# Altium footprint library PIPE_SMALL.PcbLib: 1 footprints
Each footprint in its own frame and in the unit in brackets; x right, y up, seen from the top. Pads: shape width x height; smd on the part's side, far side on the other; paste and mask are expansions set on the pad; w line width, h text height; cw(c..) or ccw(c..) is an arc to the next point about the centre after c.
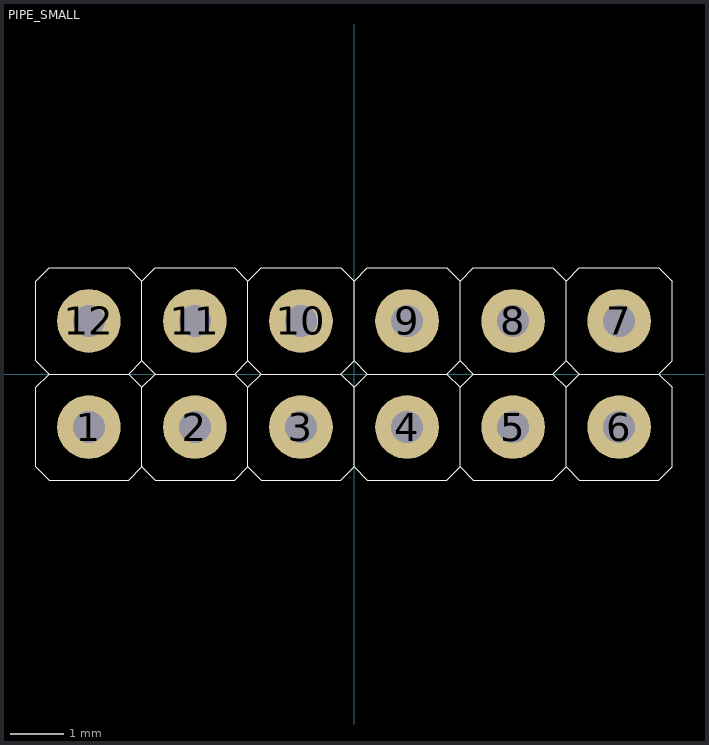
[diagram p0: the footprint, top view; thin cyan lines are the x and y axes]

## PIPE_SMALL [mm]
pads (12):
  round 1.2 hole 0.6: 1(-5,-1) 2(-3,-1) 3(-1,-1) 4(1,-1) 5(3,-1) 6(5,-1) 7(5,1) 8(3,1) 9(1,1) 10(-1,1) 11(-3,1) 12(-5,1)
Top Overlay:
  lines w0.01: -6,-0.25 -5.75,0 ; -6,-0.25 -6,-0.25 ; -6,-0.25 -6,-1.75 -5.75,-2 -4.25,-2 -4,-1.75 ; -6,1.75 -6,0.25 -5.75,0 ; -6,1.75 -6,1.75 ; -6,1.75 -5.75,2 -4.25,2 -4,1.75 ; -5.75,0 -4.25,0 ; -5.75,0 -4.25,0 ; -4.25,0 -4,0.25 ; -4.25,0 -4,-0.25 ; -4,-1.75 -4,-0.25 ; -4,-1.75 -3.75,-2 -2.25,-2 -2,-1.75 ; -4,-0.25 -3.75,0 ; -4,0.25 -3.75,0 ; -4,0.25 -4,1.75 ; -4,1.75 -3.75,2 -2.25,2 -2,1.75 ; -3.75,0 -2.25,0 ; -3.75,0 -2.25,0 ; -2.25,0 -2,0.25 ; -2.25,0 -2,-0.25 ; -2,-1.75 -2,-0.25 ; -2,-1.75 -2,-1.75 ; -2,-1.75 -1.75,-2 -0.25,-2 0,-1.75 ; -2,-0.25 -1.75,0 ; -2,0.25 -1.75,0 ; -2,0.25 -2,0.25 ; -2,0.25 -2,1.75 ; -2,1.75 -1.75,2 -0.25,2 0,1.75 ; -1.75,0 -0.25,0 ; -1.75,0 -0.25,0 ; -0.25,0 0,0.25 ; -0.25,0 0,-0.25 ; 0,-1.75 0,-0.25 ; 0,-1.75 0.25,-2 1.625,-2 1.75,-2 2,-1.75 ; 0,-0.25 0.25,0 ; 0,0.25 0.25,0 ; 0,0.25 0,1.75 ; 0,1.75 0.25,2 1.625,2 1.75,2 2,1.75 ; 0.25,0 1.625,0 ; 0.25,0 1.625,0 ; 1.625,0 1.75,0 ; 1.625,0 1.75,0 ; 1.75,0 2,0.25 ; 1.75,0 2,-0.25 ; 2,-1.75 2.25,-2 3.75,-2 4,-1.75 ; 2,-1.75 2,-1.725 2,-0.25 ; 2,-0.25 2.25,0 ; 2,0.25 2,0.275 2,1.75 ; 2,0.25 2.25,0 ; 2,1.75 2.25,2 3.75,2 4,1.75 ; 2.25,0 3.75,0 ; 2.25,0 3.75,0 ; 3.75,0 4,0.25 ; 3.75,0 4,-0.25 ; 4,-1.75 4,-0.25 ; 4,-1.75 4.25,-2 5.75,-2 6,-1.75 6,-0.25 5.75,0 ; 4,-0.25 4,-0.25 ; 4,-0.25 4.25,0 ; 4,-0.25 4,-0.25 ; 4,0.25 4.25,0 ; 4,0.25 4,1.75 ; 4,1.75 4,1.75 ; 4,1.75 4.25,2 5.75,2 6,1.75 6,0.25 5.75,0 ; 4,1.75 4,1.75 ; 4.25,0 5.75,0 ; 4.25,0 5.75,0